# Altium schematic symbol library 877-0833.SCHLIB: 1 symbol
Pins are listed as number, name and electrical type; pins without a type are passive.

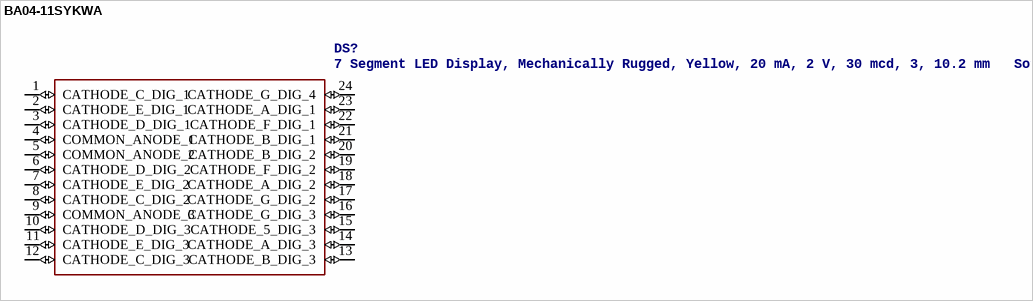
[diagram p0: symbol BA04-11SYKWA]

## BA04-11SYKWA
designator DS?, comment 7 Segment LED Display, Mechanically Rugged, Yellow, 20 mA, 2 V, 30 mcd, 3, 10.2 mm   Source:  Datasheet
Manufacturer_Name: Kingbright; Manufacturer_Part_Number: BA04-11SYKWA; Mouser_Part_Number: N/A; Mouser_Price-Stock: https://www.mouser.com/Search/Refine.aspx?Keyword=N%2FA; Description: 7 Segment LED Display, Mechanically Rugged, Yellow, 20 mA, 2 V, 30 mcd, 3, 10.2 mm; Height: 7.25mm
footprint DIPS1270W70P254L3020H725Q24N
pins: 1 CATHODE_C_DIG_1 (io), 2 CATHODE_E_DIG_1 (io), 3 CATHODE_D_DIG_1 (io), 4 COMMON_ANODE_1 (io), 5 COMMON_ANODE_2 (io), 6 CATHODE_D_DIG_2 (io), 7 CATHODE_E_DIG_2 (io), 8 CATHODE_C_DIG_2 (io), 9 COMMON_ANODE_3 (io), 10 CATHODE_D_DIG_3 (io), 11 CATHODE_E_DIG_3 (io), 12 CATHODE_C_DIG_3 (io), 13 CATHODE_B_DIG_3 (io), 14 CATHODE_A_DIG_3 (io), 15 CATHODE_5_DIG_3 (io), 16 CATHODE_G_DIG_3 (io), 17 CATHODE_G_DIG_2 (io), 18 CATHODE_A_DIG_2 (io), 19 CATHODE_F_DIG_2 (io), 20 CATHODE_B_DIG_2 (io), 21 CATHODE_B_DIG_1 (io), 22 CATHODE_F_DIG_1 (io), 23 CATHODE_A_DIG_1 (io), 24 CATHODE_G_DIG_4 (io)